# Altium footprint library PcbLib1.PcbLib: 19 footprints (part 1 of 2)
Each footprint in its own frame and in the unit in brackets; x right, y up, seen from the top. Pads: shape width x height; smd on the part's side, far side on the other; paste and mask are expansions set on the pad; w line width, h text height; cw(c..) or ccw(c..) is an arc to the next point about the centre after c.
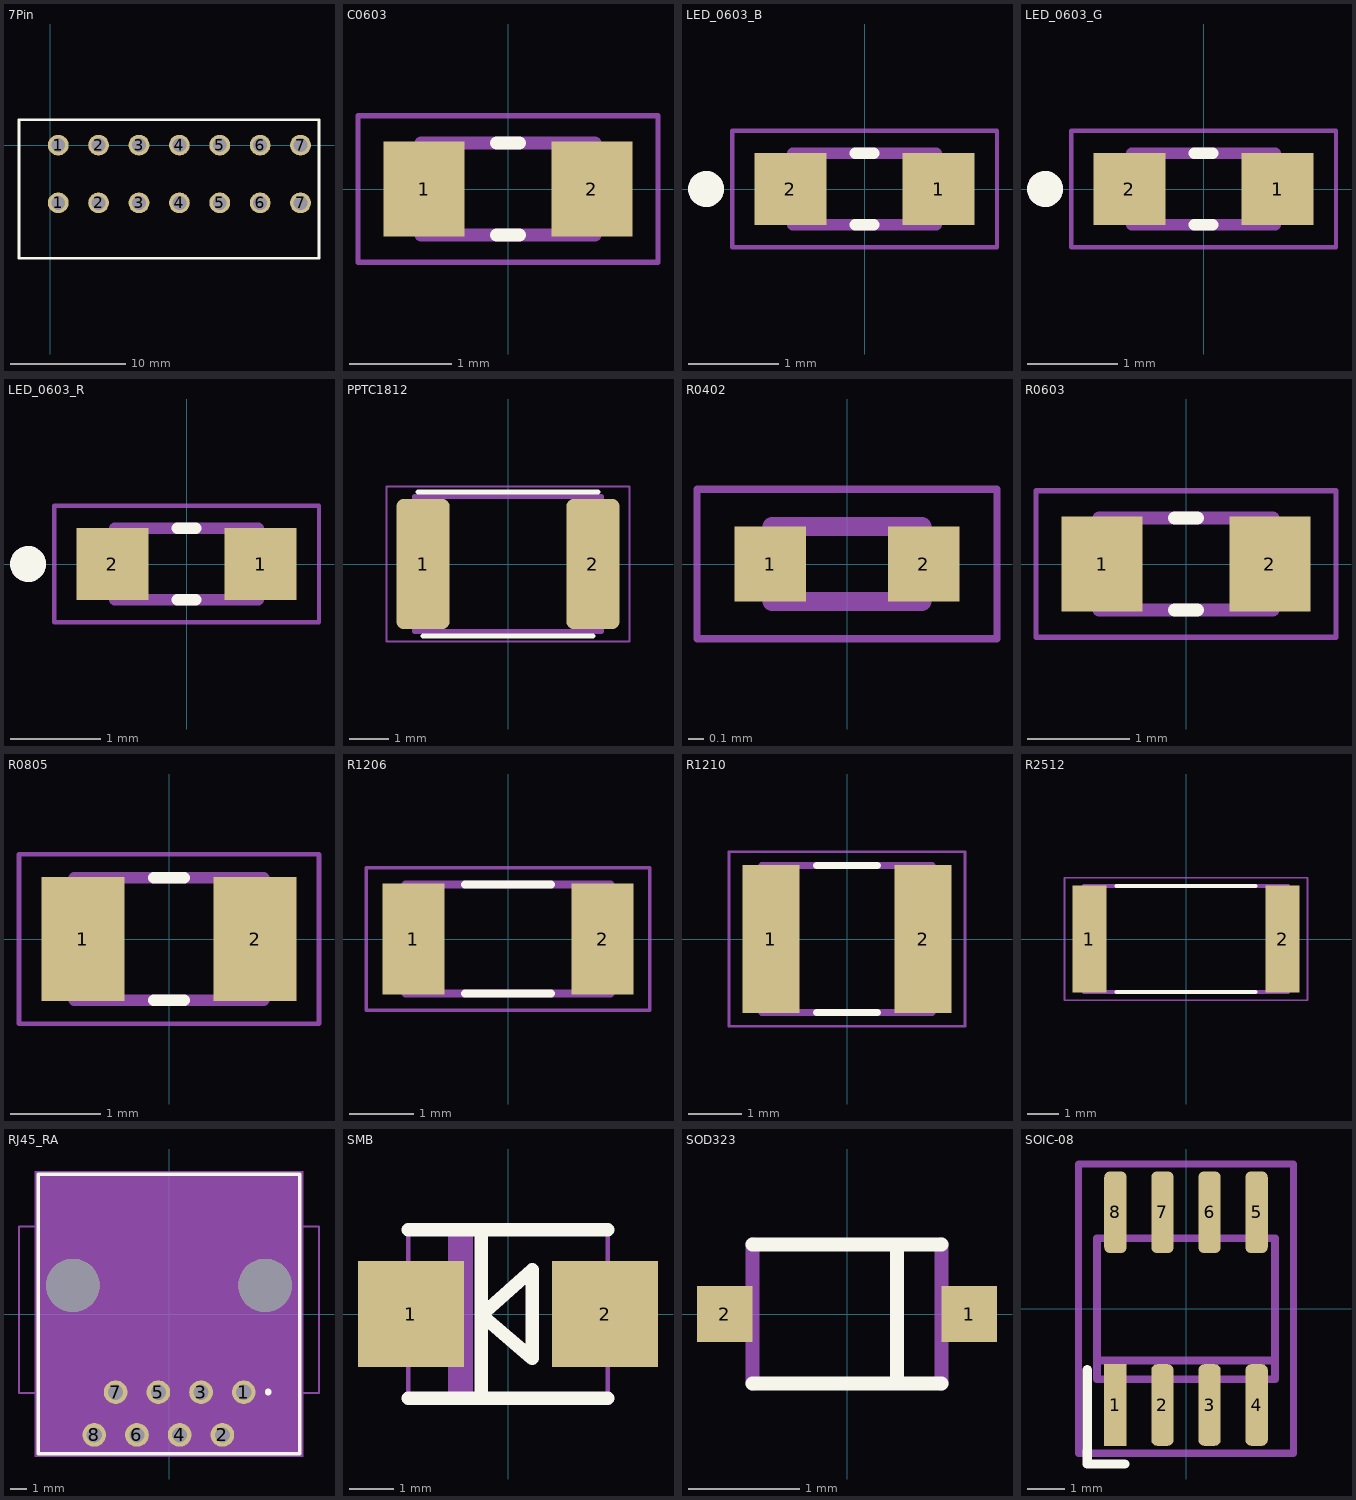
[diagram p0: the footprints below, top view; thin cyan lines are the x and y axes]

## 7Pin [mm]
pads (14):
  round 1.8 hole 1.2: 1(0.7,-5) 1(0.7,0) 2(4.2,-5) 2(4.2,0) 3(7.7,-5) 3(7.7,0) 4(11.2,-5) 4(11.2,0) 5(14.7,-5) 5(14.7,0) 6(18.2,-5) 6(18.2,0) 7(21.7,-5) 7(21.7,0)
Top Overlay:
  lines w0.254: -2.7,-9.8 -2.7,2.2 23.3,2.2 23.3,-9.8 -2.7,-9.8
3D Top:
  text "1" at 0.181,-7.858 h1.27
3D body: height 12.81, standoff -3.49, extent 0.8,-9.8 23.3,2.2
3D body: height 12.81, standoff -3.49, extent -2.618,-9.774 19.882,2.226

## C0603 [mm]
pads (2):
  rect 0.79x0.93 smd: 1(-0.82,0) 2(0.82,0)
Top Overlay:
  lines w0.127: -0.11,-0.45 0.11,-0.45 ; -0.11,0.45 0.11,0.45
3D Top:
  lines w0.127: -0.85,-0.45 0.85,-0.45 0.85,0.45 -0.85,0.45 -0.85,-0.45
Courtyard Top:
  lines w0.05: -1.465,-0.715 1.465,-0.715 1.465,0.715 -1.465,0.715 -1.465,-0.715
3D body: height 0.83, standoff 0.03, extent -0.8,-0.45 0.8,0.42

## LED_0603_B [mm]
pads (2):
  rect 0.8x0.8 smd: 1(0.825,0) 2(-0.825,0)
Top Overlay:
  circle w0.2: c-1.765,0 r0.1
  lines w0.127: -0.105,-0.4 0.105,-0.4 ; -0.105,0.4 0.105,0.4
3D Top:
  circle w0.2: c-1.765,0 r0.1
  lines w0.127: -0.8,-0.4 -0.8,0.4 0.8,0.4 0.8,-0.4 -0.8,-0.4
Courtyard Top:
  lines w0.05: -1.475,-0.65 -1.475,0.65 1.475,0.65 1.475,-0.65 -1.475,-0.65
3D body: height 0.6, standoff 0, extent -0.8,-0.4 0.8,0.4

## LED_0603_G [mm]
pads (2):
  rect 0.8x0.8 smd: 1(0.825,0) 2(-0.825,0)
Top Overlay:
  circle w0.2: c-1.765,0 r0.1
  lines w0.127: -0.105,-0.4 0.105,-0.4 ; -0.105,0.4 0.105,0.4
3D Top:
  circle w0.2: c-1.765,0 r0.1
  lines w0.127: -0.8,-0.4 -0.8,0.4 0.8,0.4 0.8,-0.4 -0.8,-0.4
Courtyard Top:
  lines w0.05: -1.475,-0.65 -1.475,0.65 1.475,0.65 1.475,-0.65 -1.475,-0.65
3D body: height 0.6, standoff 0, extent -0.8,-0.4 0.8,0.4

## LED_0603_R [mm]
pads (2):
  rect 0.8x0.8 smd: 1(0.825,0) 2(-0.825,0)
Top Overlay:
  circle w0.2: c-1.765,0 r0.1
  lines w0.127: -0.105,-0.4 0.105,-0.4 ; -0.105,0.4 0.105,0.4
3D Top:
  circle w0.2: c-1.765,0 r0.1
  lines w0.127: -0.8,-0.4 0.8,-0.4 0.8,0.4 -0.8,0.4 -0.8,-0.4
Courtyard Top:
  lines w0.05: -1.475,-0.65 1.475,-0.65 1.475,0.65 -1.475,0.65 -1.475,-0.65
3D body: height 0.6, standoff 0, extent -0.8,-0.4 0.8,0.4

## PPTC1812 [mm]
pads (2):
  rrect25% 1.34x3.29 smd: 1(-2.15,0) 2(2.15,0)
Top Overlay:
  lines w0.127: -2.28,1.825 2.28,1.825 ; -2.15,-1.825 2.15,-1.825
3D Top:
  lines w0.127: -2.37,-1.71 -2.37,1.71 2.37,1.71 2.37,-1.71 -2.37,-1.71
Courtyard Top:
  lines w0.05: -3.07,-1.96 -3.07,1.96 3.07,1.96 3.07,-1.96 -3.07,-1.96
3D body: height 1.28, standoff 0.03, extent -2.275,-1.62 2.275,1.62

## R0402 [mm]
pads (2):
  rect 0.475x0.5 smd: 1(-0.512,0) 2(0.512,0)
3D Top:
  lines w0.127: -0.5,-0.25 0.5,-0.25 0.5,0.25 -0.5,0.25 -0.5,-0.25
Courtyard Top:
  lines w0.05: -1,-0.5 1,-0.5 1,0.5 -1,0.5 -1,-0.5
3D body: height 0.38, standoff 0.03, extent -0.5,-0.25 0.5,0.25

## R0603 [mm]
pads (2):
  rect 0.79x0.93 smd: 1(-0.82,0) 2(0.82,0)
Top Overlay:
  lines w0.127: -0.11,-0.45 0.11,-0.45 ; -0.11,0.45 0.11,0.45
3D Top:
  lines w0.127: -0.85,-0.45 0.85,-0.45 0.85,0.45 -0.85,0.45 -0.85,-0.45
Courtyard Top:
  lines w0.05: -1.465,-0.715 1.465,-0.715 1.465,0.715 -1.465,0.715 -1.465,-0.715
3D body: height 0.58, standoff 0.03, extent -0.8,-0.4 0.8,0.4

## R0805 [mm]
pads (2):
  rect 0.92x1.38 smd: 1(-0.955,0) 2(0.955,0)
Top Overlay:
  lines w0.127: -0.17,-0.68 0.17,-0.68 ; -0.17,0.68 0.17,0.68
3D Top:
  lines w0.127: -1.05,-0.68 -1.05,0.68 1.05,0.68 1.05,-0.68 -1.05,-0.68
Courtyard Top:
  lines w0.05: -1.665,-0.94 -1.665,0.94 1.665,0.94 1.665,-0.94 -1.665,-0.94
3D body: height 0.63, standoff 0.03, extent -1,-0.625 1,0.625

## R1206 [mm]
pads (2):
  rect 0.97x1.73 smd: 1(-1.48,0) 2(1.48,0)
Top Overlay:
  lines w0.127: -0.67,-0.85 0.67,-0.85 ; -0.67,0.85 0.67,0.85
3D Top:
  lines w0.127: -1.6,-0.85 -1.6,0.85 1.6,0.85 1.6,-0.85 -1.6,-0.85
Courtyard Top:
  lines w0.05: -2.215,-1.115 -2.215,1.115 2.215,1.115 2.215,-1.115 -2.215,-1.115
3D body: height 0.68, standoff 0.03, extent -1.55,-0.8 1.55,0.8

## R1210 [mm]
pads (2):
  rect 1.07x2.77 smd: 1(-1.43,0) 2(1.43,0)
Top Overlay:
  lines w0.127: -0.57,-1.38 0.57,-1.38 ; -0.57,1.38 0.57,1.38
3D Top:
  lines w0.127: -1.6,-1.38 1.6,-1.38 1.6,1.38 -1.6,1.38 -1.6,-1.38
Courtyard Top:
  lines w0.05: -2.215,-1.635 2.215,-1.635 2.215,1.635 -2.215,1.635 -2.215,-1.635
3D body: height 0.68, standoff 0.03, extent -1.55,-1.3 1.55,1.3

## R2512 [mm]
pads (2):
  rect 1.07x3.37 smd: 1(-3.055,0) 2(3.055,0)
Top Overlay:
  lines w0.127: -2.2,-1.68 2.2,-1.68 ; -2.2,1.68 2.2,1.68
3D Top:
  lines w0.127: -3.22,-1.68 3.22,-1.68 3.22,1.68 -3.22,1.68 -3.22,-1.68
Courtyard Top:
  lines w0.05: -3.84,-1.935 3.84,-1.935 3.84,1.935 -3.84,1.935 -3.84,-1.935
3D body: height 0.68, standoff 0.03, extent -3.175,-1.6 3.175,1.6

## RJ45_RA [mm]
pads (10):
  round 1.408 hole 0.9: 1(4.445,-4.65) 2(3.175,-7.19) 3(1.905,-4.65) 4(0.635,-7.19) 5(-0.635,-4.65) 6(-1.905,-7.19) 7(-3.175,-4.65) 8(-4.445,-7.19)
  round 3.17 hole 3.17 unplated: ""(-5.715,1.7) ""(5.715,1.7)
Top Overlay:
  circle w0.2: c5.9,-4.64 r0.1
  lines w0.2: -7.78,-8.3 7.78,-8.3 7.78,8.3 -7.78,8.3 -7.78,-8.3
3D Top:
  lines w0.1: -7.68,-4.7 -7.68,-8.2 7.68,-8.2 7.68,-4.7 ; -7.68,-4.7 -7.68,5.2 ; -7.68,-4.7 -8.92,-4.7 -8.92,5.2 -7.68,5.2 ; -7.68,5.2 -7.68,8.2 7.68,8.2 7.68,5.2 ; 7.68,-4.7 7.68,5.2 ; 7.68,-4.7 8.92,-4.7 8.92,5.2 7.68,5.2
Courtyard Top:
  region: 7.98,-8.5 -7.98,-8.5 -7.98,8.5 7.98,8.5
3D body: height 15.84, standoff -4.17, extent -8.92,-8.077 8.92,8.33

## SMB [mm]
pads (2):
  rect 2.4x2.4 smd: 1(-2.2,0) 2(2.2,0)
Top Overlay:
  lines w0.305: -2.261,-1.905 2.261,-1.905 ; -2.261,1.905 2.261,1.905 ; -0.609,-1.904 -0.609,1.906 ; -0.604,-0.022 0.548,-1 0.548,1 -0.604,-0.022
3D Top:
  region: -0.8,-1.9 -1.35,-1.9 -1.35,1.9 -0.8,1.9
  region: 2.794,-1.092 2.261,-1.092 2.261,1.092 2.794,1.092
  region: -2.261,-1.092 -2.794,-1.092 -2.794,1.092 -2.261,1.092
  lines w0.102: -2.261,-1.905 -2.261,1.905 ; 2.261,-1.905 2.261,1.905
3D body: height 2.5, standoff 0.03, extent -2.72,-1.78 2.72,1.78

## SOD323 [mm]
pads (2):
  rect 0.5x0.5 smd: 1(1.1,0) 2(-1.1,0)
Top Overlay:
  lines w0.127: -0.85,-0.625 0.45,-0.625 ; -0.85,0.625 0.45,0.625 ; 0.85,-0.625 0.45,-0.625 ; 0.85,0.625 0.45,0.625 ; 0.45,-0.625 0.45,0.625
3D Top:
  lines w0.127: -0.85,-0.625 -0.85,0.625 ; 0.85,-0.625 0.85,0.625
3D body: height 1.11, standoff 0.01, extent -1.25,-0.625 1.25,0.625

## SOIC-08 [mm]
pads (8):
  rect 0.6x2.2 smd: 1(-1.905,-2.6)
  rrect50% 0.6x2.2 smd: 2(-0.635,-2.6) 3(0.635,-2.6) 4(1.905,-2.6) 5(1.905,2.6) 6(0.635,2.6) 7(-0.635,2.6) 8(-1.905,2.6)
Top Overlay:
  lines w0.254: -2.667,-1.651 -2.667,-4.191 -1.651,-4.191
3D Top:
  region: -1.66,-3.1 -2.15,-3.1 -2.15,-2 -1.66,-2
  region: -0.39,-3.1 -0.88,-3.1 -0.88,-2 -0.39,-2
  region: 0.88,-3.1 0.39,-3.1 0.39,-2 0.88,-2
  region: 2.15,-3.1 1.66,-3.1 1.66,-2 2.15,-2
  region: 2.15,2 1.66,2 1.66,3.1 2.15,3.1
  region: 0.88,2 0.39,2 0.39,3.1 0.88,3.1
  region: -0.39,2 -0.88,2 -0.88,3.1 -0.39,3.1
  region: -1.66,2 -2.15,2 -2.15,3.1 -1.66,3.1
  lines w0.203: -2.4,-1.4 -2.4,-1.9 2.4,-1.9 2.4,-1.4 ; -2.4,-1.4 -2.4,1.9 2.4,1.9 2.4,-1.4 ; -2.4,-1.4 2.4,-1.4
Courtyard Top:
  lines w0.2: -2.9,-3.9 2.9,-3.9 2.9,3.9 -2.9,3.9 -2.9,-3.9
3D body: height 1.53, standoff -0.22, extent -2.45,-3 2.45,3